# EAGLE library part DAC8814 (library 1A-meinLib)
Quad, Serial Input 16-Bit multiplying Digital-top-Analog Converter, Burr Brown, Texas Instruments
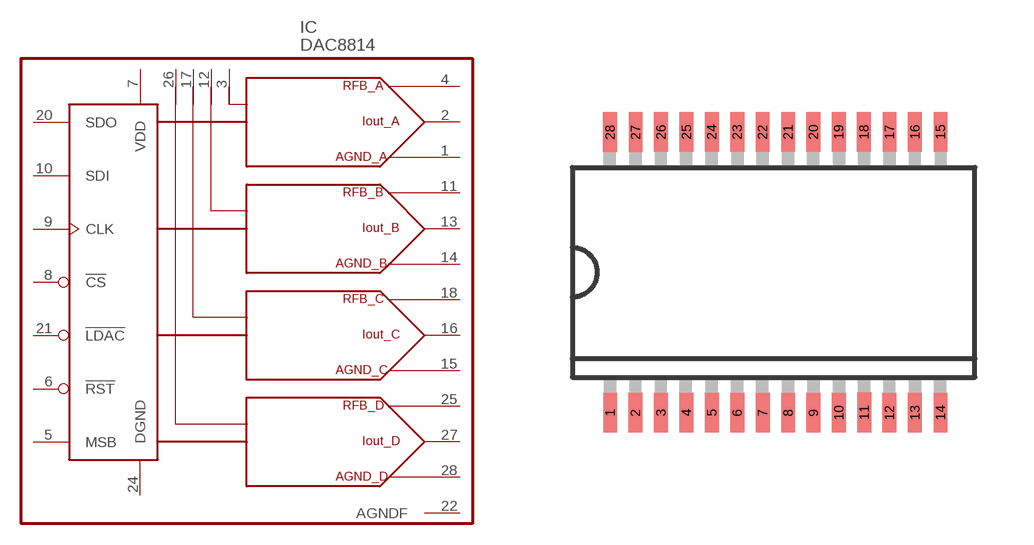
[diagram p318: symbol with the pads of SSOP-28-0.209; footprint SSOP-28-0.209]

Designator prefix IC

## DAC8814  [SSOP-28-0.209]
1  AGND_A  pas
2  IOUT_A  out
3  VREF_A  in
4  RFB_A  pas
5  MSB  in
6  !RST!  in
7  VDD  pwr
8  !CS!  in
9  CLK  in
10  SDI  in
11  RFB_B  pas
12  VREF_B  in
13  IOUT_B  out
14  AGND_B  pas
15  AGND_C  pas
16  IOUT_C  out
17  VREF_C  in
18  RFB_C  pas
20  SDO  out
21  !LDAC!  in
22  AGNDF  pwr
24  DGND  pwr
25  RFB_D  pas
26  VREF_D  in
27  IOUT_D  out
28  AGND_D  pas

## Footprint SSOP-28-0.209 (pad centres in mm)
smd 0.356 x 1.016: 1 -4.229,-3.584; 2 -3.581,-3.587; 3 -2.926,-3.587; 4 -2.277,-3.587; 5 -1.623,-3.587; 6 -0.976,-3.587; 7 -0.322,-3.587; 8 0.327,-3.587; 9 0.977,-3.588; 10 1.626,-3.587; 11 2.277,-3.582; 12 2.923,-3.587; 13 3.575,-3.587; 14 4.228,-3.587; 15 4.228,3.603; 16 3.575,3.606; 17 2.923,3.603; 18 2.27,3.603; 19 1.623,3.603; 20 0.976,3.603; 21 0.327,3.603; 22 -0.327,3.603; 23 -0.976,3.603; 24 -1.628,3.603; 25 -2.274,3.603; 26 -2.926,3.603; 27 -3.576,3.598; 28 -4.229,3.598